# EAGLE library part 47589-0001 (library 47589-0001)
Stainless Steel Extractor for Camera Socket, 6.5x6.5 Type, Lead free
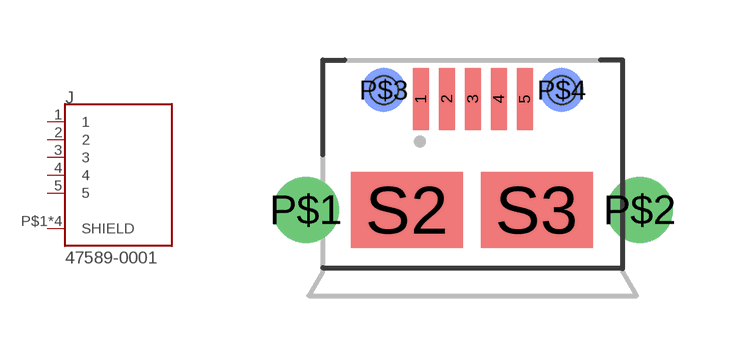
[diagram p0: symbol with the pads of MOLEX_47589-0001; footprint MOLEX_47589-0001]

Designator prefix J

## 47589-0001 (AVAILABILITY: Unavailable; DESCRIPTION: Stainless Steel Extractor for Camera Socket, 6.5x6.5 Type, Lead free; MF: Molex; MP: 47589-0001; PACKAGE: None; PRICE: None)  [MOLEX_47589-0001]
1  1  pas
2  2  pas
3  3  pas
4  4  pas
5  5  pas
P$1  SHIELD  pas
P$2  SHIELD  pas
S2  SHIELD  pas
S3  SHIELD  pas

## Footprint MOLEX_47589-0001 (pad centres in mm)
smd 0.4 x 1.55: 1 -1.3,2.038; 2 -0.65,2.038; 3 0,2.038; 4 0.65,2.038; 5 1.3,2.038
drill 1.1 pad 1.5: P$1 -4.175,-0.738; P$2 4.175,-0.738
smd 1.1 x 1.1 bottom: P$3 -2.225,2.263; P$4 2.225,2.263
smd 2.8 x 1.9: S2 -1.65,-0.738; S3 1.6,-0.738
hole 0.7 at -2.225,2.263
hole 0.7 at 2.225,2.263